# EAGLE library part SDCARD (library TEWSBPPTLibrary)
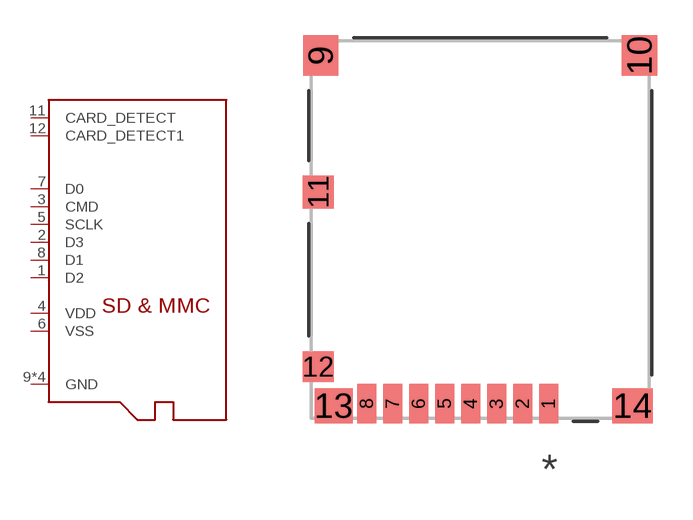
[diagram p7: symbol with the pads of CON00218_8; footprint CON00218_8]

Designator prefix -

## SDCARD  [CON00218_8]
1  D2
2  D3  in
3  CMD  in
4  VDD  sup
5  SCLK  in
6  VSS  sup
7  D0  out
8  D1
9  GND  sup
10  GND  sup
11  CARD_DETECT  pas
12  CARD_DETECT1  pas
13  GND  sup
14  GND  sup

## Footprint CON00218_8 (pad centres in mm)
smd 0.813 x 1.676: 1 2.899,-7.387; 2 1.799,-7.387; 3 0.699,-7.387; 4 -0.401,-7.387; 5 -1.501,-7.387; 6 -2.601,-7.387; 7 -3.701,-7.387; 8 -4.801,-7.387
smd 1.499 x 1.702: 9 -6.751,7.374; 10 6.751,7.374
smd 1.295 x 1.397: 11 -6.859,1.577
smd 1.295 x 1.295: 12 -6.859,-5.823
smd 1.6 x 1.499: 13 -6.201,-7.476
smd 1.702 x 1.499: 14 6.449,-7.476